# Altium integrated library ina_extension_led.IntLib: 2 symbols
Pins are listed as number, name and electrical type; pins without a type are passive.

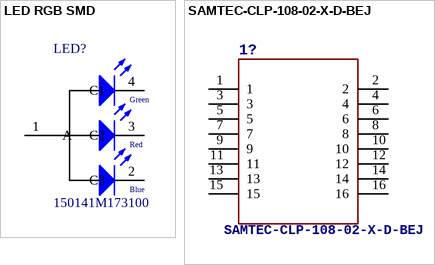
[diagram p0: symbols LED RGB SMD to SAMTEC-CLP-108-02-X-D-BEJ]

## LED RGB SMD
designator LED?, comment 150141M173100
SMD Full-Color Top LED, WL-SFTW, Red & Green & Blue; Manufacturer: Würth Elektronik eiSos GmbH; PartNo: 150141M173100; ComponentLink1Description: Manufacturer; ComponentLink1URL: http://www.we-online.de; Created by: Christin Otto; Created Date: June 2013; ComponentLink2Description: Datasheet; ComponentLink2URL: http://katalog.we-online.com/led/datasheet/150141M173100.pdf; Color: Red & Green & Blue
footprint LED RGB 3528 (Chip LED, 4-Leads, Body 2.8x3.5mm (max), Pitch 1.42mm, IPC Medium Density)
pins: 1 A, 2 C3, 3 C2, 4 C1
1 alternate drawing of the same symbol
text: Green; Red; Blue

## SAMTEC-CLP-108-02-X-D-BEJ
designator 1?
GateName_1: A; SymbolName_1: SAMTEC-CLP-108-02-X-D-BEA; DeviceName: J; LibraryName: SAMTEC-CLP-108-02-X-D-BE; DeviceSetName: SAMTEC-CLP-108-02-X-D-BE; Package: SAMTEC-CLP-108-02-X-D-BE
footprint SAMTEC-CLP-108-02-X-D-BE
pins: 1, 2, 3, 4, 5, 6, 7, 8, 9, 10, 11, 12, 13, 14, 15, 16